# Altium footprint library Connectors_MiniFIT.PcbLib: 6 footprints
Each footprint in its own frame and in the unit in brackets; x right, y up, seen from the top. Pads: shape width x height; smd on the part's side, far side on the other; paste and mask are expansions set on the pad; w line width, h text height; cw(c..) or ccw(c..) is an arc to the next point about the centre after c.
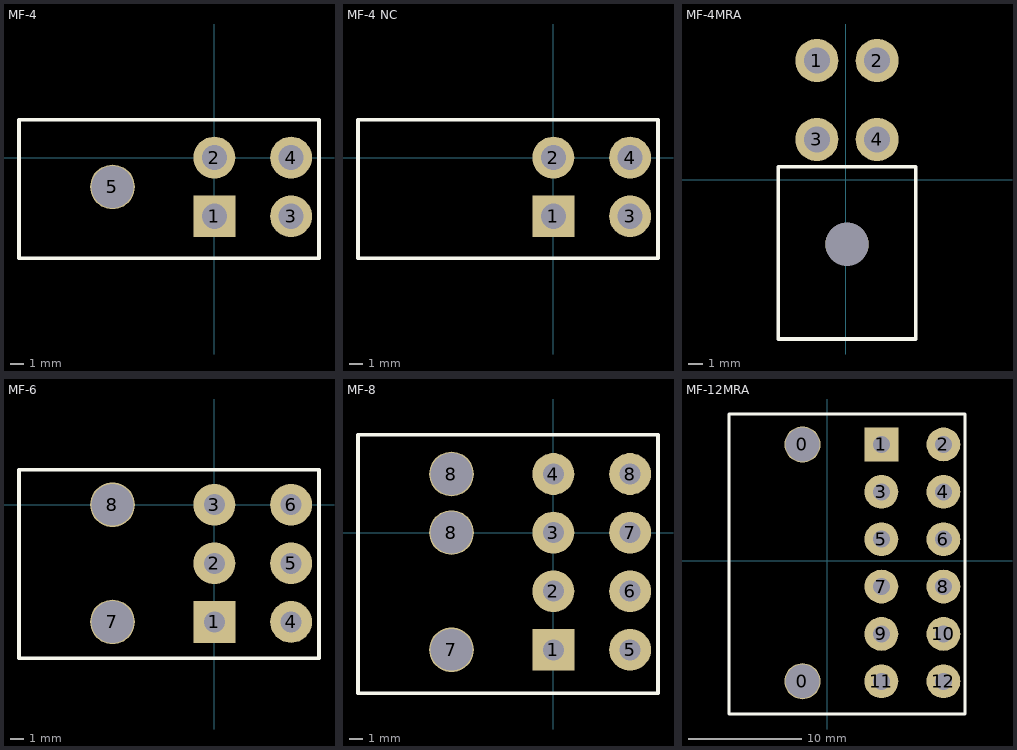
[diagram p0: the footprints below, top view; thin cyan lines are the x and y axes]

## MF-4 [mm] "MOLEX MiniFit 4 Male Connector"
height 10
pads (5):
  rect 3x3 hole 1.8: 1(0,-4.2)
  round 3 hole 1.8: 2(0,0) 3(5.5,-4.2) 4(5.5,0)
  round 3.2 hole 3 unplated: 5(-7.3,-2.1)
Top Overlay:
  lines w0.254: -14,-7.2 -14,2.7 7.5,2.7 7.5,-7.2 -14,-7.2
3D body "MF-4MRA.stp": height 11.4, standoff -3.6, extent -13.9,-7.275 6.035,2.725

## MF-4 NC [mm] "MOLEX MiniFit 4 (no catch)"
height 10
pads (4):
  rect 3x3 hole 1.8: 1(0,-4.2)
  round 3 hole 1.8: 2(0,0) 3(5.5,-4.2) 4(5.5,0)
Top Overlay:
  lines w0.254: -14,-7.2 7.5,-7.2 7.5,2.7 -14,2.7 -14,-7.2
3D body "MF-4MRA.stp": height 11.4, standoff -3.6, extent -13.9,-7.275 6.035,2.725

## MF-4MRA [mm]
pads (5):
  round 3 hole 1.8: 1(-2,8.3) 2(2.2,8.3) 3(-2,2.8) 4(2.2,2.8)
  round 3 hole 3: ""(0.1,-4.5)
Top Overlay:
  lines w0.254: -4.7,-11.1 -4.7,0.889 4.9,0.889 4.9,-11.1 -4.7,-11.1
3D body "MF-4MRA.stp": height 11.4, standoff -3.6, extent -4.725,-11.1 5.275,8.835

## MF-6 [mm] "MOLEX MiniFit 6 Male Connector"
height 10
pads (8):
  rect 3x3 hole 1.5: 1(0,-8.4)
  round 3 hole 1.5: 2(0,-4.2) 3(0,0) 4(5.5,-8.4) 5(5.5,-4.2) 6(5.5,0)
  round 3.2 hole 3 unplated: 7(-7.3,-8.4) 8(-7.3,0)
Top Overlay:
  lines w0.254: 7.5,-11 7.5,-11 ; 7.5,-11 -14,-11 -14,2.5 7.5,2.5 7.5,-11
3D body "MF-6MRA.stp": height 11.4, standoff -3.6, extent -13.9,-11.5 6.035,2.7

## MF-8 [mm] "MOLEX MiniFit 8 Male Connector"
height 10
pads (11):
  rect 3x3 hole 1.5: 1(0,-8.4)
  round 3 hole 1.5: 2(0,-4.2) 3(0,0) 4(0,4.2) 5(5.5,-8.4) 6(5.5,-4.2) 7(5.5,0) 8(5.5,4.2)
  round 3.2 hole 3 unplated: 7(-7.3,-8.4) 8(-7.3,0) 8(-7.3,4.2)
Top Overlay:
  lines w0.254: -14,-11.5 7.5,-11.5 7.5,7 -14,7 -14,-11.5
3D body "4750.step": height 11.4, standoff -3.6, extent -13.935,-11.45 6,6.95

## MF-12MRA [mm]
pads (14):
  round 3.2 hole 3 unplated: 0(-2.2,-10.7) 0(-2.2,10.3)
  rect 3x3 hole 1.5: 1(4.8,10.3)
  round 3 hole 1.5: 2(10.3,10.3) 3(4.8,6.1) 4(10.3,6.1) 5(4.8,1.9) 6(10.3,1.9) 7(4.8,-2.3) 8(10.3,-2.3) 9(4.8,-6.5) 10(10.3,-6.5) 11(4.8,-10.7) 12(10.3,-10.7)
Top Overlay:
  lines w0.254: -8.7,-13.6 -8.7,13 12.2,13 12.2,-13.6 -8.7,-13.6 ; -8.7,-13.6 -8.7,-13.6